# Altium footprint library VCN1L.PcbLib: 29 footprints (part 2 of 2)
Each footprint in its own frame and in the unit in brackets; x right, y up, seen from the top. Pads: shape width x height; smd on the part's side, far side on the other; paste and mask are expansions set on the pad; w line width, h text height; cw(c..) or ccw(c..) is an arc to the next point about the centre after c.
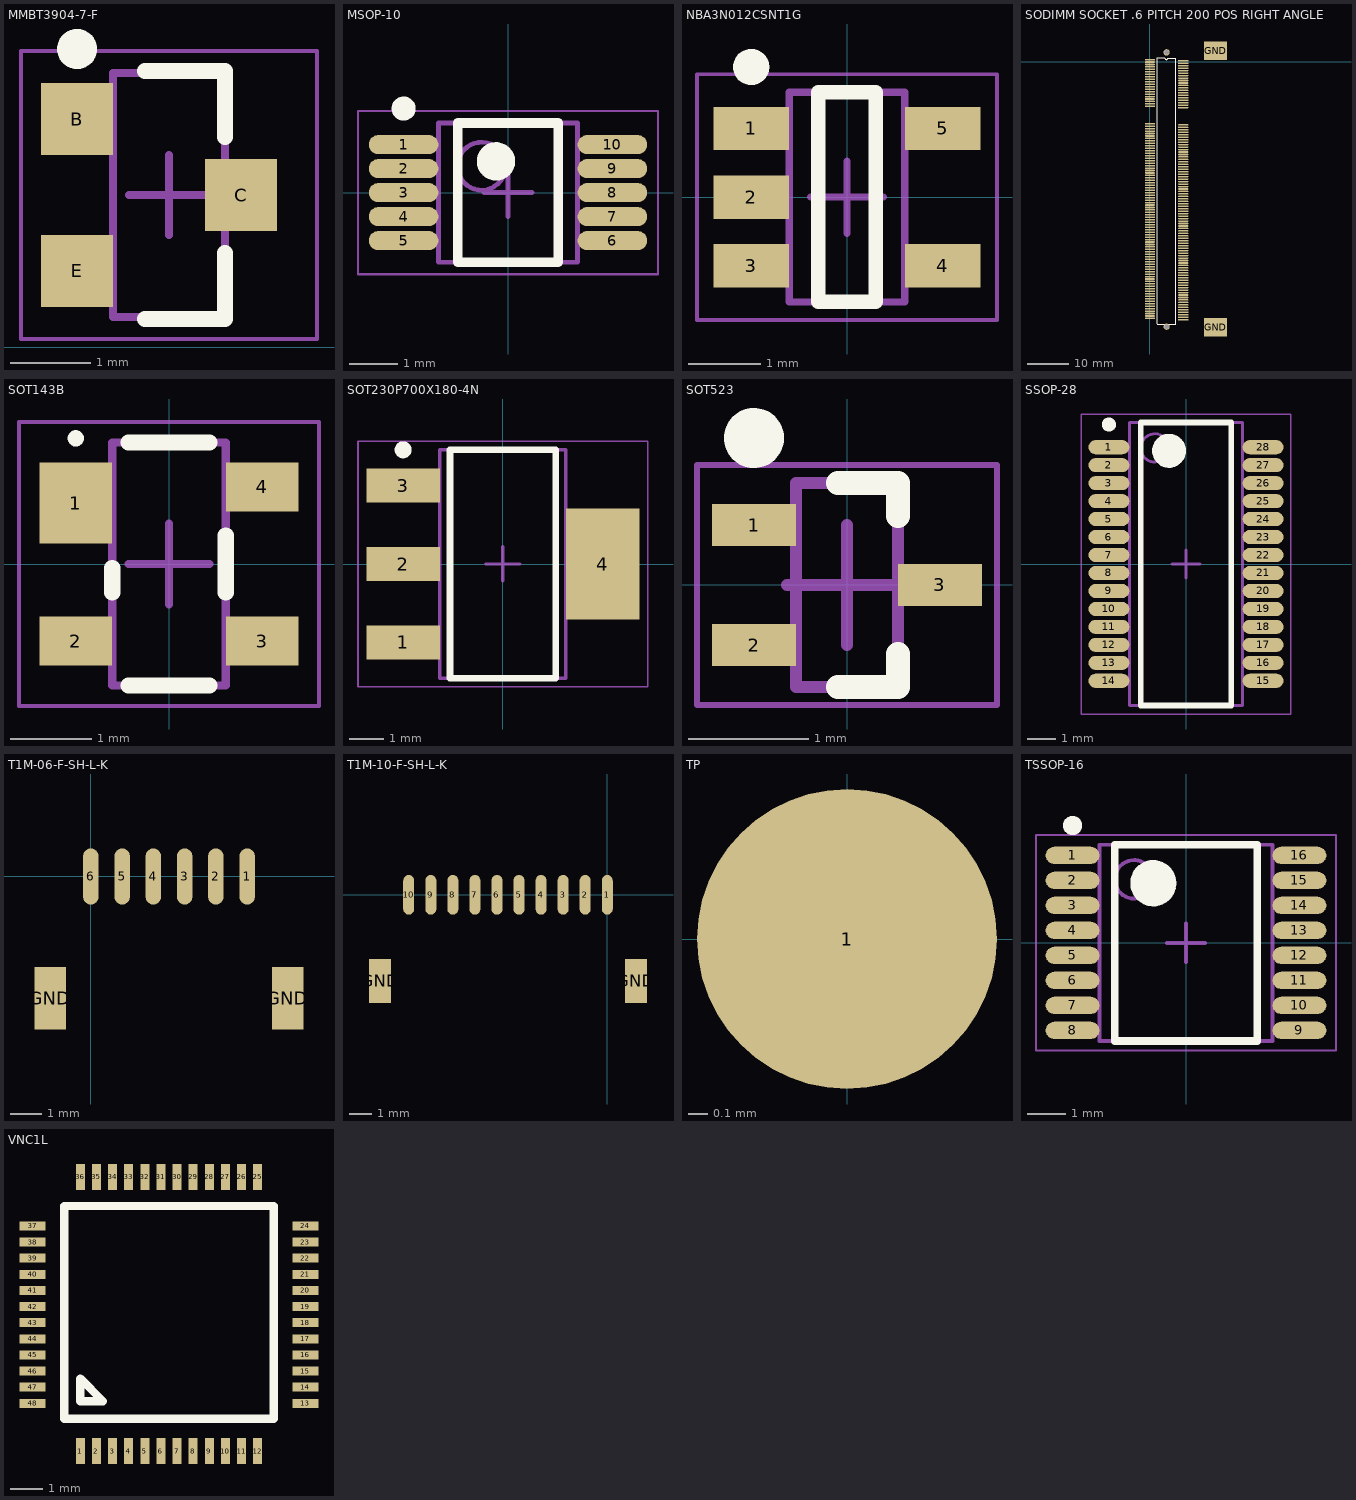
[diagram p1: the footprints below, top view; thin cyan lines are the x and y axes]

## MMBT3904-7-F [mm] "SOT23-3"
height 1.1
pads (3):
  rect 0.9x0.9 smd: B(-3.45,2.85) C(-1.4,1.9) E(-3.45,0.95)
Top Overlay:
  circle w0.25: c-3.45,3.725 r0.125
  lines w0.2: -2.6,0.35 -1.6,0.35 -1.6,1.175 ; -2.6,3.45 -1.6,3.45 -1.6,2.625
Mechanical 13:
  lines w0.1: -3,0.375 -1.6,0.375 -1.6,3.425 -3,3.425 -3,0.375
Mechanical 15:
  lines w0.05: -4.15,0.1 -0.45,0.1 -0.45,3.7 -4.15,3.7 -4.15,0.1
  lines w0.1: -2.8,1.9 -1.8,1.9 ; -2.3,1.4 -2.3,2.4
3D body "MMBT3904-7-F.step": height 1.1, standoff 0, extent -3.65,0.375 -1.15,3.425

## MSOP-10 [mm]
height 1.1
pads (10):
  oval 1.45x0.4 smd: 1(-2.175,1) 2(-2.175,0.5) 3(-2.175,0) 4(-2.175,-0.5) 5(-2.175,-1) 6(2.175,-1) 7(2.175,-0.5) 8(2.175,0) 9(2.175,0.5) 10(2.175,1)
Top Overlay:
  circle w0.25: c-2.175,1.75 r0.125
  circle w0.4: c-0.25,0.65 r0.2
  lines w0.2: -1.05,-1.45 -1.05,1.45 1.05,1.45 1.05,-1.45 -1.05,-1.45
Mechanical 13:
  circle w0.1: c-0.55,0.55 r0.5
  lines w0.1: -1.45,-1.45 -1.45,1.45 1.45,1.45 1.45,-1.45 -1.45,-1.45
Mechanical 15:
  lines w0.05: -3.125,-1.7 -3.125,1.7 3.125,1.7 3.125,-1.7 -3.125,-1.7
  lines w0.1: -0.5,0 0.5,0 ; 0,-0.5 0,0.5
3D body "MSOP-10.step": height 1.1, standoff 0, extent -2.45,-1.45 2.45,1.45

## NBA3N012CSNT1G [mm] "SOT23, 5-Leads, Body 2.90x2.80mm, Pitch 0.95mm, IPC Medium Density"
height 1.45
pads (5):
  rect 1.05x0.6 smd: 1(-1.325,0.95) 2(-1.325,0) 3(-1.325,-0.95) 4(1.325,-0.95) 5(1.325,0.95)
Top Overlay:
  circle w0.25: c-1.325,1.8 r0.125
  lines w0.2: -0.4,-1.45 0.4,-1.45 0.4,1.45 -0.4,1.45 -0.4,-1.45
Mechanical 13:
  lines w0.1: -0.8,-1.45 -0.8,1.45 0.8,1.45 0.8,-1.45 -0.8,-1.45
Mechanical 15:
  lines w0.05: -2.075,-1.7 -2.075,1.7 2.075,1.7 2.075,-1.7 -2.075,-1.7
  lines w0.1: -0.5,0 0.5,0 ; 0,-0.5 0,0.5
3D body "NBA3N012CSNT1G.step": height 1.45, standoff 0, extent -1.4,-1.45 1.4,1.45

## SODIMM SOCKET .6 PITCH 200 POS RIGHT ANGLE [mm]
pads (204):
  rect 2.5x0.38 smd: 1(0,0.5)
  oval 2.5x0.38 smd: 2(8.1,0.2) 3(0,-0.1) 4(8.1,-0.4) 5(0,-0.7) 6(8.1,-1) 7(0,-1.3) 8(8.1,-1.6) 9(0,-1.9) 10(8.1,-2.2) 11(0,-2.5) 12(8.1,-2.8) 13(0,-3.1) 14(8.1,-3.4) 15(0,-3.7) 16(8.1,-4) 17(0,-4.3) 18(8.1,-4.6) 19(0,-4.9) 20(8.1,-5.2) 21(0,-5.5) 22(8.1,-5.8) 23(0,-6.1) 24(8.1,-6.4) 25(0,-6.7) 26(8.1,-7) 27(0,-7.3) 28(8.1,-7.6) 29(0,-7.9) 30(8.1,-8.2) 31(0,-8.5) 32(8.1,-8.8) 33(0,-9.1) 34(8.1,-9.4) 35(0,-9.7) 36(8.1,-10) 37(0,-10.3) 38(8.1,-10.6) 39(0,-10.9) 40(8.1,-11.2) 41(0,-15.1) 42(8.1,-15.4) 43(0,-15.7) 44(8.1,-16) 45(0,-16.3) 46(8.1,-16.6) 47(0,-16.9) 48(8.1,-17.2) 49(0,-17.5) 50(8.1,-17.8) 51(0,-18.1) 52(8.1,-18.4) 53(0,-18.7) 54(8.1,-19) 55(0,-19.3) 56(8.1,-19.6) 57(0,-19.9) 58(8.1,-20.2) 59(0,-20.5) 60(8.1,-20.8) 61(0,-21.1) 62(8.1,-21.4) 63(0,-21.7) 64(8.1,-22) 65(0,-22.3) 66(8.1,-22.6) 67(0,-22.9) 68(8.1,-23.2) 69(0,-23.5) 70(8.1,-23.8) 71(0,-24.1) 72(8.1,-24.4) 73(0,-24.7) 74(8.1,-25) 75(0,-25.3) 76(8.1,-25.6) 77(0,-25.9) 78(8.1,-26.2) 79(0,-26.5) 80(8.1,-26.8) 81(0,-27.1) 82(8.1,-27.4) 83(0,-27.7) 84(8.1,-28) 85(0,-28.3) 86(8.1,-28.6) 87(0,-28.9) 88(8.1,-29.2) 89(0,-29.5) 90(8.1,-29.8) 91(0,-30.1) 92(8.1,-30.4) 93(0,-30.7) 94(8.1,-31) 95(0,-31.3) 96(8.1,-31.6) 97(0,-31.9) 98(8.1,-32.2) 99(0,-32.5) 100(8.1,-32.8) 101(0,-33.1) 102(8.1,-33.4) 103(0,-33.7) 104(8.1,-34) 105(0,-34.3) 106(8.1,-34.6) 107(0,-34.9) 108(8.1,-35.2) 109(0,-35.5) 110(8.1,-35.8) 111(0,-36.1) 112(8.1,-36.4) 113(0,-36.7) 114(8.1,-37) 115(0,-37.3) 116(8.1,-37.6) 117(0,-37.9) 118(8.1,-38.2) 119(0,-38.5) 120(8.1,-38.8) 121(0,-39.1) 122(8.1,-39.4) 123(0,-39.7) 124(8.1,-40) 125(0,-40.3) 126(8.1,-40.6) 127(0,-40.9) 128(8.1,-41.2) 129(0,-41.5) 130(8.1,-41.8) 131(0,-42.1) 132(8.1,-42.4) 133(0,-42.7) 134(8.1,-43) 135(0,-43.3) 136(8.1,-43.6) 137(0,-43.9) 138(8.1,-44.2) 139(0,-44.5) 140(8.1,-44.8) 141(0,-45.1) 142(8.1,-45.4) 143(0,-45.7) 144(8.1,-46) 145(0,-46.3) 146(8.1,-46.6) 147(0,-46.9) 148(8.1,-47.2) 149(0,-47.5) 150(8.1,-47.8) 151(0,-48.1) 152(8.1,-48.4) 153(0,-48.7) 154(8.1,-49) 155(0,-49.3) 156(8.1,-49.6) 157(0,-49.9) 158(8.1,-50.2) 159(0,-50.5) 160(8.1,-50.8) 161(0,-51.1) 162(8.1,-51.4) 163(0,-51.7) 164(8.1,-52) 165(0,-52.3) 166(8.1,-52.6) 167(0,-52.9) 168(8.1,-53.2) 169(0,-53.5) 170(8.1,-53.8) 171(0,-54.1) 172(8.1,-54.4) 173(0,-54.7) 174(8.1,-55) 175(0,-55.3) 176(8.1,-55.6) 177(0,-55.9) 178(8.1,-56.2) 179(0,-56.5) 180(8.1,-56.8) 181(0,-57.1) 182(8.1,-57.4) 183(0,-57.7) 184(8.1,-58) 185(0,-58.3) 186(8.1,-58.6) 187(0,-58.9) 188(8.1,-59.2) 189(0,-59.5) 190(8.1,-59.8) 191(0,-60.1) 192(8.1,-60.4) 193(0,-60.7) 194(8.1,-61) 195(0,-61.3) 196(8.1,-61.6) 197(0,-61.9) 198(8.1,-62.2) 199(0,-62.5) 200(8.1,-62.8)
  rect 5.6x4.5 smd: GND(16,-64.7) GND(16,2.7)
  round 1.524 hole 1.1 unplated: SODIMM_MH1(4.05,2.25) SODIMM_MH2(4.05,-64.5)
Top Overlay:
  lines w0.2: 1.75,-63.9 6.25,-63.9 ; 1.75,-63.8 1.75,0.9 ; 3.65,0.85 ccw(c4,0.85) 4.35,0.85 ; 6.25,-63.8 6.25,0.85
  lines w0.254: 1.75,0.9 3.6,0.9 ; 4.35,0.85 6.2,0.85
3D body "c-1473005-4-j1-3d.stp": height 5.2, standoff -0.7, extent -0.9,-66.9 25.15,4.6

## SOT143B [mm] "SOT143, 4-Leads, Body 2.90x2.30mm, Pitch 1.90mm, IPC Medium Density"
height 1.1
pads (4):
  rect 0.9x1 smd: 1(-1.15,0.75)
  rect 0.9x0.6 smd: 2(-1.15,-0.95) 3(1.15,-0.95) 4(1.15,0.95)
Top Overlay:
  circle w0.1: c-1.15,1.55 r0.05
  lines w0.2: -0.7,-0.35 -0.7,-0.05 ; -0.5,-1.5 0.5,-1.5 ; -0.5,1.5 0.5,1.5 ; 0.7,-0.35 0.7,0.35
Mechanical 13:
  lines w0.1: -0.7,-1.5 -0.7,1.5 0.7,1.5 0.7,-1.5 -0.7,-1.5
Mechanical 15:
  lines w0.05: -1.85,-1.75 -1.85,1.75 1.85,1.75 1.85,-1.75 -1.85,-1.75
  lines w0.1: -0.5,0 0.5,0 ; 0,-0.5 0,0.5
3D body "SOT143B.step": height 1.1, standoff 0, extent -1.15,-1.5 1.15,1.5

## SOT230P700X180-4N [mm] "SOT223, 4-Leads, Body 6.50x7.00mm (avg), Pitch 2.30mm, IPC Medium Density"
height 1.8
pads (4):
  rect 2.15x1 smd: 1(-2.925,-2.3) 2(-2.925,0) 3(-2.925,2.3)
  rect 2.15x3.25 smd: 4(2.925,0)
Top Overlay:
  circle w0.25: c-2.925,3.35 r0.125
  lines w0.2: -1.55,-3.35 -1.55,3.35 1.55,3.35 1.55,-3.35 -1.55,-3.35
Mechanical 13:
  lines w0.1: -1.85,-3.35 -1.85,3.35 1.85,3.35 1.85,-3.35 -1.85,-3.35
Mechanical 15:
  lines w0.05: -4.25,-3.6 -4.25,3.6 4.25,3.6 4.25,-3.6 -4.25,-3.6
  lines w0.1: -0.5,0 0.5,0 ; 0,-0.5 0,0.5
3D body "SOT230P700X180-4N.step": height 1.8, standoff 0, extent -3.5,-3.35 3.5,3.35

## SOT523 [mm]
height 0.9
pads (3):
  rect 0.7x0.35 smd: 1(-0.775,0.5) 2(-0.775,-0.5) 3(0.775,0)
Top Overlay:
  circle w0.25: c-0.775,1.225 r0.125
  lines w0.2: -0.075,-0.85 0.425,-0.85 0.425,-0.575 ; -0.075,0.85 0.425,0.85 0.425,0.575
Mechanical 13:
  lines w0.1: -0.425,-0.85 -0.425,0.85 0.425,0.85 0.425,-0.85 -0.425,-0.85
Mechanical 15:
  lines w0.05: -1.25,-1 -1.25,1 1.25,1 1.25,-1 -1.25,-1
  lines w0.1: -0.5,0 0.5,0 ; 0,-0.5 0,0.5
3D body "SOT523.step": height 0.9, standoff 0, extent -0.8,-0.848 0.8,0.848

## SSOP-28 [mm]
height 1.73
pads (28):
  oval 1.45x0.5 smd: 1(-2.725,4.127) 2(-2.725,3.492) 3(-2.725,2.857) 4(-2.725,2.222) 5(-2.725,1.587) 6(-2.725,0.953) 7(-2.725,0.318) 8(-2.725,-0.318) 9(-2.725,-0.953) 10(-2.725,-1.587) 11(-2.725,-2.222) 12(-2.725,-2.857) 13(-2.725,-3.492) 14(-2.725,-4.127) 15(2.725,-4.127) 16(2.725,-3.492) 17(2.725,-2.857) 18(2.725,-2.222) 19(2.725,-1.587) 20(2.725,-0.953) 21(2.725,-0.318) 22(2.725,0.318) 23(2.725,0.953) 24(2.725,1.587) 25(2.725,2.222) 26(2.725,2.857) 27(2.725,3.492) 28(2.725,4.127)
Top Overlay:
  circle w0.25: c-2.725,4.928 r0.125
  circle w0.6: c-0.6,4 r0.3
  lines w0.2: -1.6,-5 -1.6,5 1.6,5 1.6,-5 -1.6,-5
Mechanical 13:
  circle w0.1: c-1.1,4.1 r0.5
  lines w0.1: -2,-5 -2,5 2,5 2,-5 -2,-5
Mechanical 15:
  lines w0.05: -3.7,-5.3 -3.7,5.3 3.7,5.3 3.7,-5.3 -3.7,-5.3
  lines w0.1: -0.5,0 0.5,0 ; 0,-0.5 0,0.5
3D body "SSOP-28b.step": height 1.73, standoff 0, extent -2.997,-5 2.997,5

## T1M-06-F-SH-L-K [mm]
pads (8):
  oval 0.5x1.8 smd: 1(5,0) 2(4,0) 3(3,0) 4(2,0) 5(1,0) 6(0,0)
  rect 1x2 smd: GND(-1.3,-3.9) GND(6.3,-3.9)
3D body "T1M-06-F-SH-L-K.stp": height 4.72, standoff 0, extent -1.7,-5.475 6.7,0.425

## T1M-10-F-SH-L-K [mm]
pads (12):
  oval 0.5x1.8 smd: 1(0,0) 2(-1,0) 3(-2,0) 4(-3,0) 5(-4,0) 6(-5,0) 7(-6,0) 8(-7,0) 9(-8,0) 10(-9,0)
  rect 1x2 smd: GND(-10.3,-3.9) GND(1.3,-3.9)
3D body "T1M-10-F-SH-L-K.stp": height 4.7, standoff -0.02, extent -10.7,-5.475 1.7,0.425

## TP [mil]
pads (1):
  round 60 all layers, no hole: 1(0,0)

## TSSOP-16 [mm]
height 1.2
pads (16):
  oval 1.4x0.45 smd: 1(-2.95,2.275) 2(-2.95,1.625) 3(-2.95,0.975) 4(-2.95,0.325) 5(-2.95,-0.325) 6(-2.95,-0.975) 7(-2.95,-1.625) 8(-2.95,-2.275) 9(2.95,-2.275) 10(2.95,-1.625) 11(2.95,-0.975) 12(2.95,-0.325) 13(2.95,0.325) 14(2.95,0.975) 15(2.95,1.625) 16(2.95,2.275)
Top Overlay:
  circle w0.25: c-2.95,3.05 r0.125
  circle w0.6: c-0.85,1.55 r0.3
  lines w0.2: -1.85,-2.55 -1.85,2.55 1.85,2.55 1.85,-2.55 -1.85,-2.55
Mechanical 13:
  circle w0.1: c-1.35,1.65 r0.5
  lines w0.1: -2.25,-2.55 -2.25,2.55 2.25,2.55 2.25,-2.55 -2.25,-2.55
Mechanical 15:
  lines w0.05: -3.9,-2.8 -3.9,2.8 3.9,2.8 3.9,-2.8 -3.9,-2.8
  lines w0.1: -0.5,0 0.5,0 ; 0,-0.5 0,0.5
3D body "TSSOP-16.step": height 1.2, standoff 0, extent -3.2,-2.55 3.2,2.55

## VNC1L [mm]
pads (48):
  rect 0.28x0.8 smd: 1(-71.65,-13.35) 2(-71.15,-13.35) 3(-70.65,-13.35) 4(-70.15,-13.35) 5(-69.65,-13.35) 6(-69.15,-13.35) 7(-68.65,-13.35) 8(-68.15,-13.35) 9(-67.65,-13.35) 10(-67.15,-13.35) 11(-66.65,-13.35) 12(-66.15,-13.35) 25(-66.15,-4.85) 26(-66.65,-4.85) 27(-67.15,-4.85) 28(-67.65,-4.85) 29(-68.15,-4.85) 30(-68.65,-4.85) 31(-69.15,-4.85) 32(-69.65,-4.85) 33(-70.15,-4.85) 34(-70.65,-4.85) 35(-71.15,-4.85) 36(-71.65,-4.85)
  rect 0.8x0.28 smd: 13(-64.67,-11.87) 14(-64.67,-11.37) 15(-64.67,-10.87) 16(-64.67,-10.37) 17(-64.67,-9.87) 18(-64.67,-9.37) 19(-64.67,-8.87) 20(-64.67,-8.37) 21(-64.67,-7.87) 22(-64.67,-7.37) 23(-64.67,-6.87) 24(-64.67,-6.37) 37(-73.13,-6.37) 38(-73.13,-6.87) 39(-73.13,-7.37) 40(-73.13,-7.87) 41(-73.13,-8.37) 42(-73.13,-8.87) 43(-73.13,-9.37) 44(-73.13,-9.87) 45(-73.13,-10.37) 46(-73.13,-10.87) 47(-73.13,-11.37) 48(-73.13,-11.87)
Top Overlay:
  lines w0.254: -72.15,-12.35 -72.15,-5.75 -65.65,-5.75 -65.65,-12.35 -72.15,-12.35 ; -71.65,-11.805 -71.65,-11.105 -70.95,-11.805 -71.65,-11.805
3D body: height 0.25, standoff 0, extent -67.6,-6.75 -67.6,-6.75
3D body "User Library-LQFP50P700X700x160-48N.STEP": height 1.6, standoff 0.01, extent -73.39,-13.59 -64.41,-4.61